# Altium schematic symbol library CONN - ARDUINO PINS.SchLib: 1 symbol
Pins are listed as number, name and electrical type; pins without a type are passive.

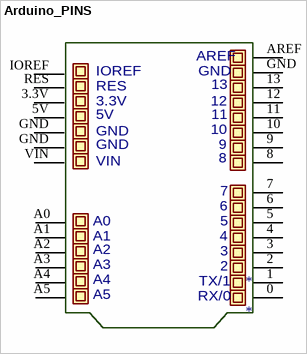
[diagram p0: symbol Arduino_PINS]

## Arduino_PINS
designator *
pins: 0 RX, 1 TX, 2, 3, 3.3V, 4, 5, 5V, 6, 7, 8, 9, 10, 11, 12, 13, A0, A1, A2, A3, A4, A5, AREF, GND, GND, GND, IOREF, RES, VIN
text: TX/1; RX/0